# EAGLE library part QPL7420TR7 (library QPL7420TR7)
5 1800 MHz 75 Ohm 20 dB CATV Amplifier Source: Datasheet <https://www.qorvo.com/products/d/da008608>
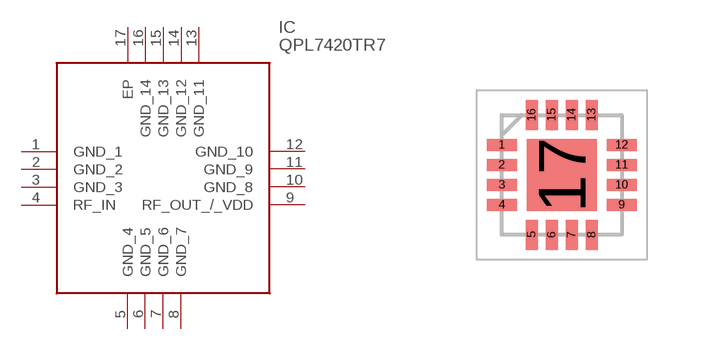
[diagram p0: symbol with the pads of QFN50P300X300X90-17N; footprint QFN50P300X300X90-17N]

Designator prefix IC

## QPL7420TR7 (Description: 5 1800 MHz 75 Ohm 20 dB CATV Amplifier; Height: 0.9mm; Manufacturer_Name: Qorvo; Manufacturer_Part_Number: QPL7420TR7; Mouser_Part_Number: 772-QPL7420TR7; Mouser_Price-Stock: https://www.mouser.co.uk/ProductDetail/Qorvo/QPL7420TR7?qs=3Rah4i%252BhyCEDyXYZgQlE2Q%3D%3D)  [QFN50P300X300X90-17N]
1  GND_1
2  GND_2
3  GND_3
4  RF_IN
5  GND_4
6  GND_5
7  GND_6
8  GND_7
9  RF_OUT_/_VDD
10  GND_8
11  GND_9
12  GND_10
13  GND_11
14  GND_12
15  GND_13
16  GND_14
17  EP

## Footprint QFN50P300X300X90-17N (pad centres in mm)
QPL7420TR7
smd 0.75 x 0.3: 1 -1.5,0.75; 2 -1.5,0.25; 3 -1.5,-0.25; 4 -1.5,-0.75; 9 1.5,-0.75; 10 1.5,-0.25; 11 1.5,0.25; 12 1.5,0.75
smd 0.3 x 0.75: 5 -0.75,-1.5; 6 -0.25,-1.5; 7 0.25,-1.5; 8 0.75,-1.5; 13 0.75,1.5; 14 0.25,1.5; 15 -0.25,1.5; 16 -0.75,1.5
smd 1.75 x 1.8: 17 0,0